# Altium schematic symbol library Fuses.SchLib: 5 symbols
Pins are listed as number, name and electrical type; pins without a type are passive.

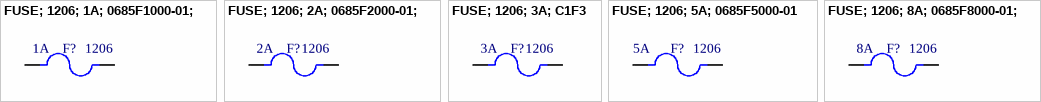
[diagram p0: symbols FUSE; 1206; 1A; 0685F1000-01; to FUSE; 1206; 8A; 0685F8000-01;]

## FUSE; 1206; 1A; 0685F1000-01;
designator F?, comment value 1A  Package: 1206  (hidden comment: 1 A 125 V AC 63 V DC Fuse Board Mount (Cartridge Style Excluded) Surface Mount 1206 (3216 Metric))
C1F 1 (0685F1000-01) 1206 SMT Fuse Fast Acting 1A; Manufacturer: Bel; Voltage Rating: 125V; Voltage Rating (DC): 63V; Approvals: CE,cURus; Designer: TVBac; Supplier: Digikey; Supplier Part Number: 5923-C1F1CT-ND; Manufacturer Part Number: 0685F1000-01; RoHS: Yes; Category: Fuses; Stock: 12003; Pricing: 1=0.34, 5=0.28, 10=0.258, 50=0.2142, 100=0.1976, 250=0.17764, 500=0.1639, 1000=0.15116 (USD); Mounting Technology: Surface Mount; Case/Package: 1206; Pins: 2; Contact Plating: Tin; Case Code (Imperial): 1206; Case Code (Metric): 3216; Min Operating Temperature: -55°C; Max Operating Temperature: 125°C; Current Rating: 1A; Voltage Rating (AC): 125V; Length: 3.2004mm; Width: 1.5748mm; ComponentLink1URL: https://datasheet.octopart.com/0685F1000-01-Bel-Fuse-datasheet-102831173.pdf?src-supplier=Element14; ComponentLink1Description: https://datasheet.octopart.com/0685F1000-01-Bel-Fuse-datasheet-102831173.pdf?src-supplier=Element14; ComponentLink2URL: https://datasheet.octopart.com/C1F1-Bel-Fuse-datasheet-137317060.pdf?src-supplier=Sager+Electronics; ComponentLink2Description: https://datasheet.octopart.com/C1F1-Bel-Fuse-datasheet-137317060.pdf?src-supplier=Sager+Electronics
footprint FUSE-1206-BFI
pins: 1, 2

## FUSE; 1206; 2A; 0685F2000-01;
designator F?, comment value 2A  Package: 1206  (hidden comment: 2 A 125 V AC 63 V DC Fuse Board Mount (Cartridge Style Excluded) Surface Mount 1206 (3216 Metric))
Fuse Chip Fast Acting 2A 125V SMD Solder Pad 1206 3.2 X 1.58 X 0.63mm Ceramic Automotive; Manufacturer: Bel; Manufacturer Part Number: 0685F2000-01; Designer: TVBac; Supplier: Digikey; Supplier Part Number: 5923-C1F2CT-ND; RoHS: Yes; Category: Fuses; Stock: 100361; Pricing: 1=0.34, 5=0.28, 10=0.258, 50=0.2142, 100=0.1976, 250=0.17764, 500=0.1639, 1000=0.15116 (USD); ComponentLink1URL: https://datasheet.octopart.com/0685F2000-01-Bel-Fuse-datasheet-102831173.pdf?src-supplier=Element14; ComponentLink1Description: https://datasheet.octopart.com/0685F2000-01-Bel-Fuse-datasheet-102831173.pdf?src-supplier=Element14
footprint FUSE-1206-BFI
pins: 1, 2

## FUSE; 1206; 3A; C1F3
designator F?, comment value 3A  Package: 1206  (hidden comment: 3 A 125 V AC 63 V DC Fuse Board Mount (Cartridge Style Excluded) Surface Mount 1206 (3216 Metric))
C1F 3 (0685F3000-01) 1206 SMT Fuse Fast Acting 3A; Manufacturer: Bel TRP; Manufacturer Part Number: C1F3; Voltage Rating (AC): 125V; Voltage Rating (DC): 63V; DC Cold Resistance: 39mR; Designer: TVBac; Supplier: Digikey; Supplier Part Number: 5923-C1F3CT-ND; RoHS: Yes; Category: Fuses; Stock: 30088; Pricing: 1=0.34, 5=0.28, 10=0.258, 50=0.2142, 100=0.1976, 250=0.17764, 500=0.1639, 1000=0.15116 (USD); Mounting Technology: Surface Mount; Case/Package: 1206; Pins: 2; Case Code (Metric): 3216; Case Code (Imperial): 1206; Contact Plating: Tin; Min Operating Temperature: -55°C; Max Operating Temperature: 125°C; Voltage Rating: 125V; Packaging: Cut Tape; Fuse Type: Board Mount (Cartridge Style Excluded); Series: C1F; ComponentLink1URL: http://www.mouser.com/ds/2/643/C1F-594910.pdf?src-supplier=Mouser; ComponentLink1Description: http://www.mouser.com/ds/2/643/C1F-594910.pdf?src-supplier=Mouser; ComponentLink2URL: http://belfuse.com/pdfs/C1F.pdf?src-supplier=Avnet; ComponentLink2Description: http://belfuse.com/pdfs/C1F.pdf?src-supplier=Avnet; ComponentLink3URL: https://belfuse.com/resources/datasheets/circuitprotection/ds-cp-c1f-series.pdf?src-supplier=Digikey; ComponentLink3Description: https://belfuse.com/resources/datasheets/circuitprotection/ds-cp-c1f-series.pdf?src-supplier=Digikey; ComponentLink4URL: https://datasheet.octopart.com/0685F3000-01-Bel-Fuse-datasheet-102831173.pdf?src-supplier=Element14; ComponentLink4Description: https://datasheet.octopart.com/0685F3000-01-Bel-Fuse-datasheet-102831173.pdf?src-supplier=Element14
footprint FUSE-1206-BFI
pins: 1, 2

## FUSE; 1206; 5A; 0685F5000-01
designator F?, comment value 5A  Package: 1206  (hidden comment: 5 A 125 V AC 63 V DC Fuse Board Mount (Cartridge Style Excluded) Surface Mount 1206 (3216 Metric))
Fuse Chip Fast Acting 5A 125V SMD Solder Pad 1206 3.2 X 1.58 X 0.63mm; Manufacturer: Bel; Manufacturer Part Number: 0685F5000-01; Voltage Rating (DC): 63V; Approvals: 4705,4711ApprovalsType; Designer: TVBac; Supplier: Digikey; Supplier Part Number: 5923-C1F5CT-ND; RoHS: Yes; Category: Fuses; Stock: 41004; Pricing: 1=0.34, 5=0.28, 10=0.258, 50=0.2142, 100=0.1976, 250=0.17764, 500=0.1639, 1000=0.15116 (USD); Mounting Technology: 8Mount; Case/Package: 340Case; Pins: 2NUMBER; Contact Plating: 154ConductorMaterial; Case Code (Imperial): 3195CaseCodeImperial; Case Code (Metric): 3654CaseCodeMetric; Min Operating Temperature: -55°C; Max Operating Temperature: 125°C; Current Rating: 5A; Voltage Rating: 125V; Voltage Rating (AC): 125V; Length: 3.2004mm; Width: 1.5748mm; ComponentLink1URL: https://datasheet.octopart.com/0685F5000-01-Bel-Fuse-datasheet-102831173.pdf?src-supplier=Element14; ComponentLink1Description: https://datasheet.octopart.com/0685F5000-01-Bel-Fuse-datasheet-102831173.pdf?src-supplier=Element14; ComponentLink2URL: https://datasheet.octopart.com/C1F5-Bel-Fuse-datasheet-137317060.pdf?src-supplier=Sager+Electronics; ComponentLink2Description: https://datasheet.octopart.com/C1F5-Bel-Fuse-datasheet-137317060.pdf?src-supplier=Sager+Electronics
footprint FUSE-1206-BFI
pins: 1, 2

## FUSE; 1206; 8A; 0685F8000-01;
designator F?, comment value 8A  Package: 1206  (hidden comment: 8 A 125 V AC 63 V DC Fuse Board Mount (Cartridge Style Excluded) Surface Mount 1206 (3216 Metric))
Fuse Chip Fast Acting 8A 125V SMD Solder Pad 1206 3.2 X 1.58 X 0.63mm Ceramic Automotive; Manufacturer: Bel; Manufacturer Part Number: 0685F8000-01; Voltage Rating (DC): 63V; Approvals: 4705,4711ApprovalsType; Designer: TVBac; Supplier: Digikey; Supplier Part Number: 5923-C1F8CT-ND; RoHS: Yes; Category: Fuses; Stock: 175241; Pricing: 1=0.34, 5=0.28, 10=0.258, 50=0.2142, 100=0.1976, 250=0.17764, 500=0.1639, 1000=0.15116 (USD); Mounting Technology: 8Mount; Case/Package: 340Case; Pins: 2NUMBER; Contact Plating: 154ConductorMaterial; Case Code (Imperial): 3195CaseCodeImperial; Case Code (Metric): 3654CaseCodeMetric; Min Operating Temperature: -55°C; Max Operating Temperature: 125°C; Current Rating: 8A; Voltage Rating: 125V; Voltage Rating (AC): 125V; Length: 3.2004mm; Width: 1.5748mm
footprint FUSE-1206-BFI
pins: 1, 2